# Altium integrated library Altera APEX 20KE.IntLib: 235 symbols (part 32 of 49)
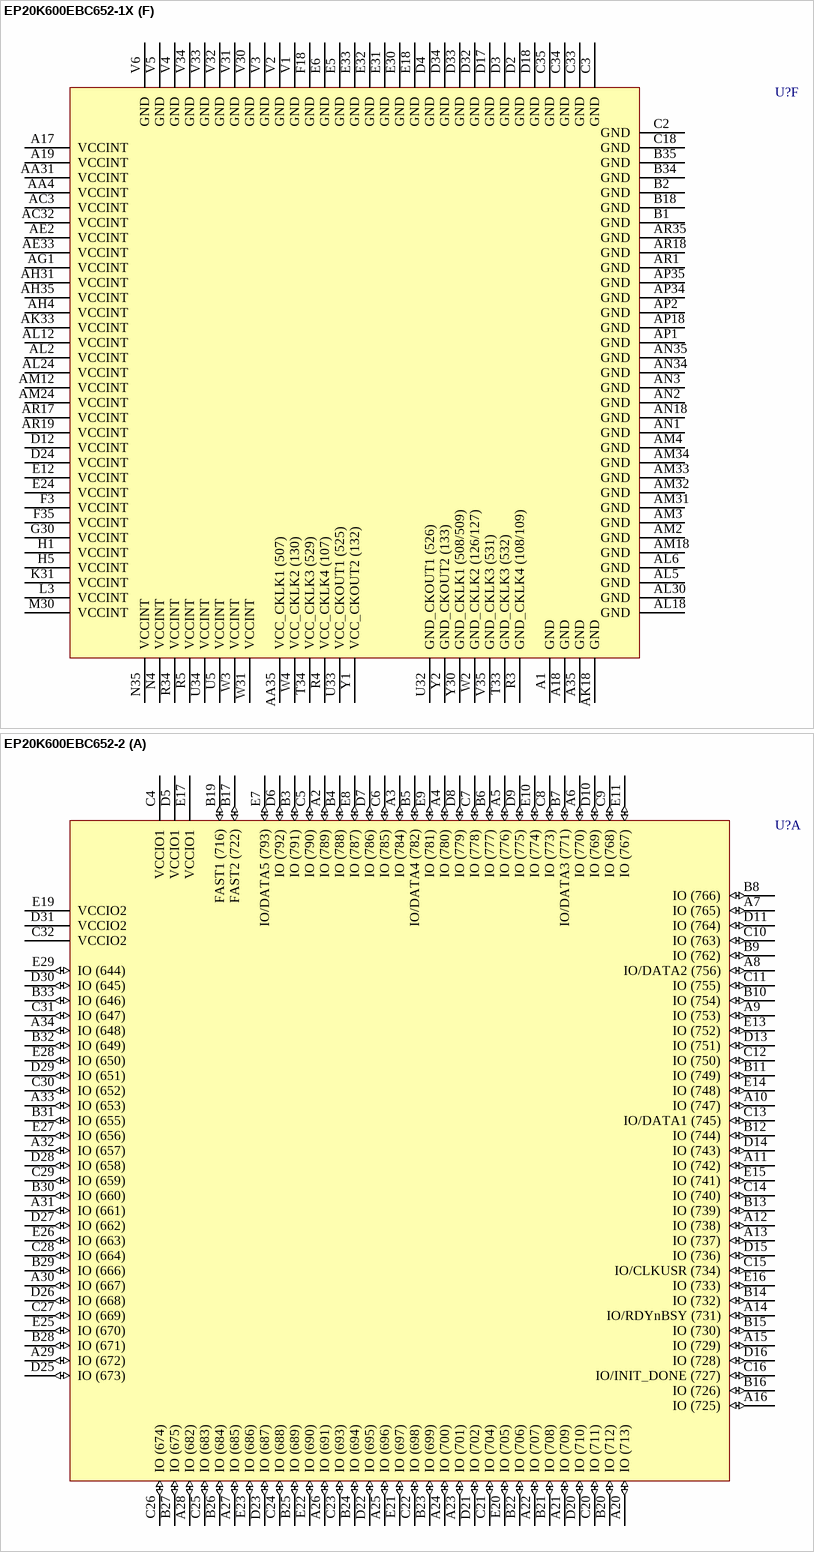
[diagram p430: symbols EP20K600EBC652-1X to EP20K600EBC652-2]

## EP20K600EBC652-1X
designator U?
APEX 20K600E PLD with PLLs and LVDS, 652-Pin BGA, Commercial Grade, Speed Grade 1; Published: 17-Jul-2002; LatestRevisionDate: 13-Apr-2006; LatestRevisionNote: IPC-7351 Footprint Added.; DatasheetVersion: Mar-2004; PackageVersion: ver14.1, Oct-2005; PackageReference: BGA652; Publisher: Altium Limited; PackageDescription: 652-Ball Ball Grid Array (BGA652); Code_JEDEC: MO-192-BAW-1; ComponentLink1Description: Manufacturer Link; ComponentLink1URL: http://www.altera.com/products/devices/apex/apx-index.html; ComponentLink2Description: Datasheet; ComponentLink2URL: http://www.altera.com/literature/ds/apex.pdf
footprint BGA652 (BGA, 652-Leads, Body 45x45mm, Pitch 1.27mm)
3D model EP20K600E-BGA652TD (652-Ball Ball Grid Array (BGA652))
part A pins: A2 IO (789) (io), A3 IO (784) (io), A4 IO (780) (io), A5 IO (776) (io), A6 IO (770) (io), A7 IO (765) (io), A8 IO/DATA2 (756) (io), A9 IO (753) (io), A10 IO (747) (io), A11 IO (742) (io), A12 IO (738) (io), A13 IO (737) (io), A14 IO/RDYnBSY (731) (io), A15 IO (729) (io), A16 IO (725) (io), A20 IO (713) (io), A21 IO (709) (io), A22 IO (707) (io), A23 IO (701) (io), A24 IO (700) (io), A25 IO (696) (io), A26 IO (691) (io), A27 IO (685) (io), A28 IO (682) (io), A29 IO (672) (io), A30 IO (667) (io), A31 IO (661) (io), A32 IO (657) (io), A33 IO (653) (io), A34 IO (648) (io), B3 IO (791) (io), B4 IO (788) (io), B5 IO/DATA4 (782) (io), B6 IO (777) (io), B7 IO/DATA3 (771) (io), B8 IO (766) (io), B9 IO (762) (io), B10 IO (754) (io), B11 IO (749) (io), B12 IO (744) (io), B13 IO (739) (io), B14 IO (732) (io), B15 IO (730) (io), B16 IO (726) (io), B17 FAST2 (722) (io), B19 FAST1 (716) (io), B20 IO (712) (io), B21 IO (708) (io), B22 IO (706) (io), B23 IO (699) (io), B24 IO (694) (io), B25 IO (689) (io), B26 IO (684) (io), B27 IO (675) (io), B28 IO (671) (io), B29 IO (666) (io), B30 IO (660) (io), B31 IO (655) (io), B32 IO (649) (io), B33 IO (646) (io), C4 VCCIO1 (power), C5 IO (790) (io), C6 IO (785) (io), C7 IO (778) (io), C8 IO (773) (io), C9 IO (768) (io), C10 IO (763) (io), C11 IO (755) (io), C12 IO (750) (io), C13 IO/DATA1 (745) (io), C14 IO (740) (io), C15 IO/CLKUSR (734) (io), C16 IO/INIT_DONE (727) (io), C20 IO (711) (io), C21 IO (704) (io), C22 IO (698) (io), C23 IO (693) (io), C24 IO (688) (io), C25 IO (683) (io), C26 IO (674) (io), C27 IO (669) (io), C28 IO (664) (io), C29 IO (659) (io), C30 IO (652) (io), C31 IO (647) (io), C32 VCCIO2 (power), D5 VCCIO1 (power), D6 IO (792) (io), D7 IO (786) (io), D8 IO (779) (io), D9 IO (775) (io), D10 IO (769) (io), D11 IO (764) (io), D13 IO (751) (io), D14 IO (743) (io), D15 IO (736) (io), D16 IO (728) (io), D20 IO (710) (io), D21 IO (702) (io), D22 IO (695) (io), D23 IO (687) (io), D25 IO (673) (io), D26 IO (668) (io), D27 IO (662) (io), D28 IO (658) (io), D29 IO (651) (io), D30 IO (645) (io), D31 VCCIO2 (power), E7 IO/DATA5 (793) (io), E8 IO (787) (io), E9 IO (781) (io), E10 IO (774) (io), E11 IO (767) (io), E13 IO (752) (io), E14 IO (748) (io), E15 IO (741) (io), E16 IO (733) (io), E17 VCCIO1 (power), E19 VCCIO2 (power), E20 IO (705) (io), E21 IO (697) (io), E22 IO (690) (io), E23 IO (686) (io), E25 IO (670) (io), E26 IO (663) (io), E27 IO (656) (io), E28 IO (650) (io), E29 IO (644) (io)
part B pins: AA30 IO/LOCK1 (501) (io), AA32 IO (504) (io), AA33 IO (505) (io), AA34 IO (506) (io), AB30 IO (494) (io), AB31 IO (495) (io), AB32 IO (497) (io), AB33 IO (498) (io), AB34 IO (499) (io), AB35 IO (500) (io), AC30 IO (487) (io), AC31 IO (488) (io), AC33 IO (491) (io), AC34 IO (492) (io), AC35 IO (493) (io), AD30 IO (480) (io), AD31 IO (481) (io), AD32 IO (482) (io), AD33 IO (484) (io), AD34 IO (485) (io), AD35 IO (486) (io), AE30 IO (473) (io), AE31 IO (474) (io), AE32 IO (475) (io), AE34 IO (478) (io), AE35 IO (479) (io), AF30 IO (466) (io), AF31 IO (467) (io), AF32 IO (468) (io), AF33 IO (469) (io), AF34 IO (471) (io), AF35 IO (472) (io), AG30 IO (458) (io), AG31 IO (459) (io), AG32 IO (460) (io), AG33 IO (461) (io), AG34 IO (462) (io), AG35 IO (465) (io), AH30 IO (449) (io), AH32 IO (452) (io), AH33 IO (453) (io), AH34 IO (455) (io), AJ30 IO (428) (io), AJ31 IO (430) (io), AJ32 IO (434) (io), AJ33 IO (436) (io), AJ34 IO (447) (io), AJ35 IO (456) (io), AK30 IO (410) (io), AK31 IO (415) (io), AK32 IO (417) (io), AK34 IO (441) (io), AK35 IO (454) (io), AL31 VCCIO4 (power), AL32 VCCIO4 (power), AL33 IO (408) (io), AL34 IO (421) (io), AL35 IO (443) (io), AM35 IO (423) (io), D35 IO (623) (io), E34 IO (625) (io), E35 IO (606) (io), F30 VCCIO3 (power), F31 VCCIO3 (power), F32 IO (632) (io), F33 IO (630) (io), F34 IO (610) (io), G31 IO (619) (io), G32 IO (617) (io), G33 IO (612) (io), G34 IO (604) (io), G35 IO/LVDSRX16n (587) (io), H30 IO (599) (io), H31 IO (597) (io), H32 IO (593) (io), H33 IO (591) (io), H34 IO/LVDSRX16p (588) (io), H35 IO (580) (io), J30 IO (586) (io), J31 IO/LVDSRX15n (585) (io), J32 IO/LVDSRX15p (584) (io), J33 IO/LVDSRX14p (582) (io), J34 IO/LVDSRX14n (581) (io), J35 IO/LVDSRX13n (579) (io), K30 IO/LVDSRX13p (578) (io), K32 IO/LVDSRX12p (575) (io), K33 IO/LVDSRX12n (574) (io), K34 IO (573) (io), K35 IO/LVDSRX11n (572) (io), L30 IO/LVDSRX11p (571) (io), L31 IO/LVDSRX10p (569) (io), L32 IO/LVDSRX10n (568) (io), L33 IO (567) (io), L34 IO/LVDSRX09n (566) (io), L35 IO/LVDSRX09p (565) (io), M31 IO/LVDSRX08p (562) (io), M32 IO/LVDSRX08n (561) (io), M33 IO (560) (io), M34 IO/LVDSRX07n (559) (io), M35 IO/LVDSRX07p (558) (io), N30 IO/LVDSRX06p (556) (io), N31 IO/LVDSRX06n (555) (io), N32 IO (554) (io), N33 IO/LVDSRX05n (553) (io), N34 IO/LVDSRX05p (552) (io), P30 IO/LVDSRX04p (549) (io), P31 IO/LVDSRX04n (548) (io), P32 IO (547) (io), P33 IO/LVDSRX03n (546) (io), P34 IO/LVDSRX03p (545) (io), P35 IO/LVDSRX02p (543) (io), R30 IO/LVDSRX02n (542) (io), R31 IO/LOCK3 (541) (io), R32 IO/LVDSRX01n (540) (io), R33 IO/LVDSRX01p (539) (io), R35 IO (536) (io), T30 IO (535) (io), T31 IO/LVDSRXINCLK1n (534) (io), T32 IO/LVDSRXINCLK1p (533) (io), T35 IO/CLKLK_OUT1n (528) (io), U30 VCCIO3 (power), W30 VCCIO4 (power), W34 CLK1p (520) (in), Y31 IO/CLKLK_FB1n (511) (io), Y33 IO/CLK3n (513) (io), Y34 CLK3p (514) (in), Y35 IO/CLK1n (515) (io)
part C pins: AL7 IO (248) (io), AL8 IO (254) (io), AL9 IO (260) (io), AL10 IO (267) (io), AL11 IO (274) (io), AL13 IO (289) (io), AL14 IO (293) (io), AL15 IO (300) (io), AL16 IO (308) (io), AL17 VCCIO6 (power), AL19 VCCIO5 (power), AL20 IO (337) (io), AL21 IO (345) (io), AL22 IO (352) (io), AL23 IO (356) (io), AL25 IO (371) (io), AL26 IO (378) (io), AL27 IO (385) (io), AL28 IO (391) (io), AL29 IO (397) (io), AM5 VCCIO6 (power), AM6 IO (249) (io), AM7 IO (255) (io), AM8 IO (262) (io), AM9 IO (266) (io), AM10 IO (272) (io), AM11 IO (277) (io), AM13 IO (290) (io), AM14 IO (298) (io), AM15 IO (305) (io), AM16 IO/LVDSDESKEW (313) (io), AM20 IO (332) (io), AM21 IO (340) (io), AM22 IO (347) (io), AM23 IO (355) (io), AM25 IO (368) (io), AM26 IO (373) (io), AM27 IO (379) (io), AM28 IO (383) (io), AM29 IO (390) (io), AM30 IO (396) (io), AN4 VCCIO6 (power), AN5 IO (251) (io), AN6 IO (256) (io), AN7 IO (263) (io), AN8 IO (268) (io), AN9 IO (273) (io), AN10 IO (278) (io), AN11 IO (286) (io), AN12 IO (291) (io), AN13 IO (296) (io), AN14 IO (301) (io), AN15 IO (307) (io), AN16 IO (314) (io), AN20 IO (331) (io), AN21 IO (338) (io), AN22 IO (344) (io), AN23 IO (349) (io), AN24 IO (354) (io), AN25 IO (359) (io), AN26 IO (367) (io), AN27 IO (372) (io), AN28 IO (377) (io), AN29 IO (382) (io), AN30 IO (389) (io), AN31 IO (394) (io), AN32 VCCIO5 (power), AN33 VCCIO5 (power), AP3 IO (250) (io), AP4 IO (253) (io), AP5 IO (259) (io), AP6 IO (264) (io), AP7 IO (270) (io), AP8 IO (275) (io), AP9 IO (279) (io), AP10 IO (287) (io), AP11 IO (292) (io), AP12 IO (297) (io), AP13 IO (302) (io), AP14 IO (309) (io), AP15 IO (311) (io), AP16 IO (315) (io), AP17 FAST4 (320) (io), AP19 FAST3 (326) (io), AP20 IO (330) (io), AP21 IO (334) (io), AP22 IO (336) (io), AP23 IO (343) (io), AP24 IO (348) (io), AP25 IO (353) (io), AP26 IO (358) (io), AP27 IO (366) (io), AP28 IO (370) (io), AP29 IO (375) (io), AP30 IO (381) (io), AP31 IO (386) (io), AP32 IO (392) (io), AP33 IO (395) (io), AR2 IO (252) (io), AR3 IO (257) (io), AR4 IO (261) (io), AR5 IO (265) (io), AR6 IO (271) (io), AR7 IO (276) (io), AR8 IO (285) (io), AR9 IO (288) (io), AR10 IO (294) (io), AR11 IO (299) (io), AR12 IO (303) (io), AR13 IO (304) (io), AR14 IO (310) (io), AR15 IO (312) (io), AR16 IO (316) (io), AR20 IO (329) (io), AR21 IO (333) (io), AR22 IO (335) (io), AR23 IO (341) (io), AR24 IO (342) (io), AR25 IO (346) (io), AR26 IO (351) (io), AR27 IO (357) (io), AR28 IO (360) (io), AR29 IO (369) (io), AR30 IO (374) (io), AR31 IO (380) (io), AR32 IO (384) (io), AR33 IO (388) (io), AR34 IO (393) (io)
part D pins: AA1 IO (146) (io), AA2 IO/LVDSTXOUTCLK1n (140) (io), AA3 IO/LVDSTXOUTCLK1p (141) (io), AA5 IO/LVDSTX01p (144) (io), AA6 IO/LVDSTX01n (145) (io), AB1 IO (152) (io), AB2 IO/LVDSTX02n (147) (io), AB3 IO/LVDSTX02p (148) (io), AB4 IO/LVDSTX03p (150) (io), AB5 IO/LVDSTX03n (151) (io), AB6 IO/LOCK2 (139) (io), AC1 IO/LVDSTX04n (153) (io), AC2 IO/LVDSTX04p (154) (io), AC4 IO/LVDSTX05p (157) (io), AC5 IO/LVDSTX05n (158) (io), AC6 IO/LOCK4 (159) (io), AD1 IO/LVDSTX06n (160) (io), AD2 IO/LVDSTX06p (161) (io), AD3 IO/LVDSTX07p (163) (io), AD4 IO/LVDSTX07n (164) (io), AD5 IO (165) (io), AD6 IO/LVDSTX08n (166) (io), AE1 IO/LVDSTX08p (167) (io), AE3 IO/LVDSTX09p (170) (io), AE4 IO/LVDSTX09n (171) (io), AE5 IO (172) (io), AE6 IO/LVDSTX10n (173) (io), AF1 IO/LVDSTX10p (174) (io), AF2 IO/LVDSTX11p (176) (io), AF3 IO/LVDSTX11n (177) (io), AF4 IO (178) (io), AF5 IO/LVDSTX12n (179) (io), AF6 IO/LVDSTX12p (180) (io), AG2 IO/LVDSTX13n (184) (io), AG3 IO (185) (io), AG4 IO/LVDSTX14n (186) (io), AG5 IO/LVDSTX14p (187) (io), AG6 IO/LVDSTX15p (189) (io), AH1 IO/LVDSTX13p (183) (io), AH2 IO (191) (io), AH3 IO/LVDSTX16p (193) (io), AH5 IO (196) (io), AH6 IO (198) (io), AJ1 IO/LVDSTX15n (190) (io), AJ2 IO (202) (io), AJ3 IO (211) (io), AJ4 IO (215) (io), AJ5 IO (217) (io), AJ6 IO (222) (io), AK1 IO/LVDSTX16n (192) (io), AK2 IO (209) (io), AK3 IO (228) (io), AK4 IO (230) (io), AK5 IO (235) (io), AK6 IO (237) (io), AL1 IO (204) (io), AL3 VCCIO7 (power), AL4 VCCIO7 (power), AM1 IO (224) (io), C1 IO (20) (io), D1 IO (24) (io), E1 IO (46) (io), E2 IO (26) (io), E3 VCCIO8 (power), E4 VCCIO8 (power), F1 IO (57) (io), F2 IO (44) (io), F4 IO (18) (io), F5 IO (13) (io), F6 IO (11) (io), G1 IO (59) (io), G2 IO (50) (io), G3 IO (39) (io), G4 IO (37) (io), G5 IO (33) (io), G6 IO (31) (io), H2 IO (58) (io), H3 IO (56) (io), H4 IO (55) (io), H6 IO (52) (io), J1 IO (68) (io), J2 IO (65) (io), J3 IO (64) (io), J4 IO (63) (io), J5 IO (62) (io), J6 IO (61) (io), K1 IO (75) (io), K2 IO (74) (io), K3 IO (72) (io), K4 IO (71) (io), K5 IO (70) (io), K6 IO (69) (io), L1 IO (82) (io), L2 IO (81) (io), L4 IO (78) (io), L5 IO (77) (io), L6 IO/DATA6 (76) (io), M1 IO/nWS (89) (io), M2 IO (88) (io), M3 IO (87) (io), M4 IO (85) (io), M5 IO (84) (io), M6 IO/DATA7 (83) (io), N1 IO/nRS (96) (io), N2 IO (95) (io), N3 IO (94) (io), N5 IO (91) (io), N6 IO (90) (io), P1 IO (103) (io), P2 IO/nCS (102) (io), P3 IO (101) (io), P4 IO (100) (io), P5 IO (98) (io), P6 IO (97) (io), R1 IO (111) (io), R2 IO/CS (110) (io), R6 IO (104) (io), T1 IO/CLK2n (118) (io), T2 CLK4p (117) (in), T3 IO/CLK4n (116) (io), T5 IO/CLKLK_FB2n (114) (io), T6 IO/DEV_CLRn (112) (io), U2 CLK2p (123) (in), U6 VCCIO8 (power), W5 IO/LVDSTXINCLK1p (137) (io), W6 VCCIO7 (power), Y4 IO/CLKLK_OUT2n (135) (io), Y5 IO/DEV_OE (131) (io), Y6 IO/LVDSTXINCLK1n (138) (io)
part E pins: AM17 CONF_DONE (318) (io), AM19 TMS (328) (in), AN17 nSTATUS (319) (io), AN19 TCK (327) (in), C17 TDO (723) (out), C19 nCEO (715) (out), D19 TRST (714) (in), T4 CLKLK_FB2p (115) (in), U1 nCE (124) (in), U3 DCLK (122) (in), U4 DATA0 (121) (in), U31 CLKLK_OUT1p (527) (out), U35 MSEL0 (522) (in), W1 TDI (125) (in), W32 nCONFIG (518) (in), W33 CLKLK_ENA (519) (in), W35 MSEL1 (521) (in), Y3 CLKLK_OUT2p (134) (out), Y32 CLKLK_FB1p (512) (in)
part F pins: A1 GND (power), A17 VCCINT (power), A18 GND (power), A19 VCCINT (power), A35 GND (power), AA4 VCCINT (power), AA31 VCCINT (power), AA35 VCC_CKLK1 (507) (power), AC3 VCCINT (power), AC32 VCCINT (power), AE2 VCCINT (power), AE33 VCCINT (power), AG1 VCCINT (power), AH4 VCCINT (power), AH31 VCCINT (power), AH35 VCCINT (power), AK18 GND (power), AK33 VCCINT (power), AL2 VCCINT (power), AL5 GND (power), AL6 GND (power), AL12 VCCINT (power), AL18 GND (power), AL24 VCCINT (power), AL30 GND (power), AM2 GND (power), AM3 GND (power), AM4 GND (power), AM12 VCCINT (power), AM18 GND (power), AM24 VCCINT (power), AM31 GND (power), AM32 GND (power), AM33 GND (power), AM34 GND (power), AN1 GND (power), AN2 GND (power), AN3 GND (power), AN18 GND (power), AN34 GND (power), AN35 GND (power), AP1 GND (power), AP2 GND (power), AP18 GND (power), AP34 GND (power), AP35 GND (power), AR1 GND (power), AR17 VCCINT (power), AR18 GND (power), AR19 VCCINT (power), AR35 GND (power), B1 GND (power), B2 GND (power), B18 GND (power), B34 GND (power), B35 GND (power), C2 GND (power), C3 GND (power), C18 GND (power), C33 GND (power), C34 GND (power), C35 GND (power), D2 GND (power), D3 GND (power), D4 GND (power), D12 VCCINT (power), D17 GND (power), D18 GND (power), D24 VCCINT (power), D32 GND (power), D33 GND (power), D34 GND (power), E5 GND (power), E6 GND (power), E12 VCCINT (power), E18 GND (power), E24 VCCINT (power), E30 GND (power), E31 GND (power), E32 GND (power), E33 GND (power), F3 VCCINT (power), F18 GND (power), F35 VCCINT (power), G30 VCCINT (power), H1 VCCINT (power), H5 VCCINT (power), K31 VCCINT (power), L3 VCCINT (power), M30 VCCINT (power), N4 VCCINT (power), N35 VCCINT (power), R3 GND_CKLK4 (108/109) (power), R4 VCC_CKLK4 (107) (power), R5 VCCINT (power), R34 VCCINT (power), T33 GND_CKLK3 (532) (power), T34 VCC_CKLK3 (529) (power), U5 VCCINT (power), U32 GND_CKOUT1 (526) (power), U33 VCC_CKOUT1 (525) (power), U34 VCCINT (power), V1 GND (power), V2 GND (power), V3 GND (power), V4 GND (power), V5 GND (power), V6 GND (power), V30 GND (power), V31 GND (power), V32 GND (power), V33 GND (power), V34 GND (power), V35 GND_CKLK3 (531) (power), W2 GND_CKLK2 (126/127) (power), W3 VCCINT (power), W4 VCC_CKLK2 (130) (power), W31 VCCINT (power), Y1 VCC_CKOUT2 (132) (power), Y2 GND_CKOUT2 (133) (power), Y30 GND_CKLK1 (508/509) (power)

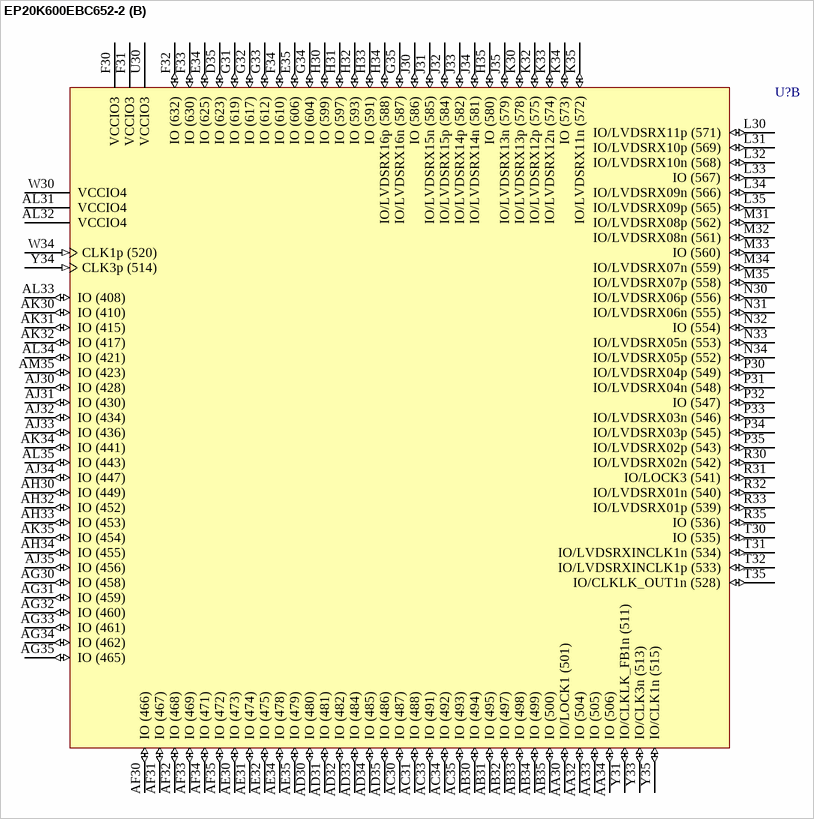
[diagram p330: symbol EP20K600EBC652-2]

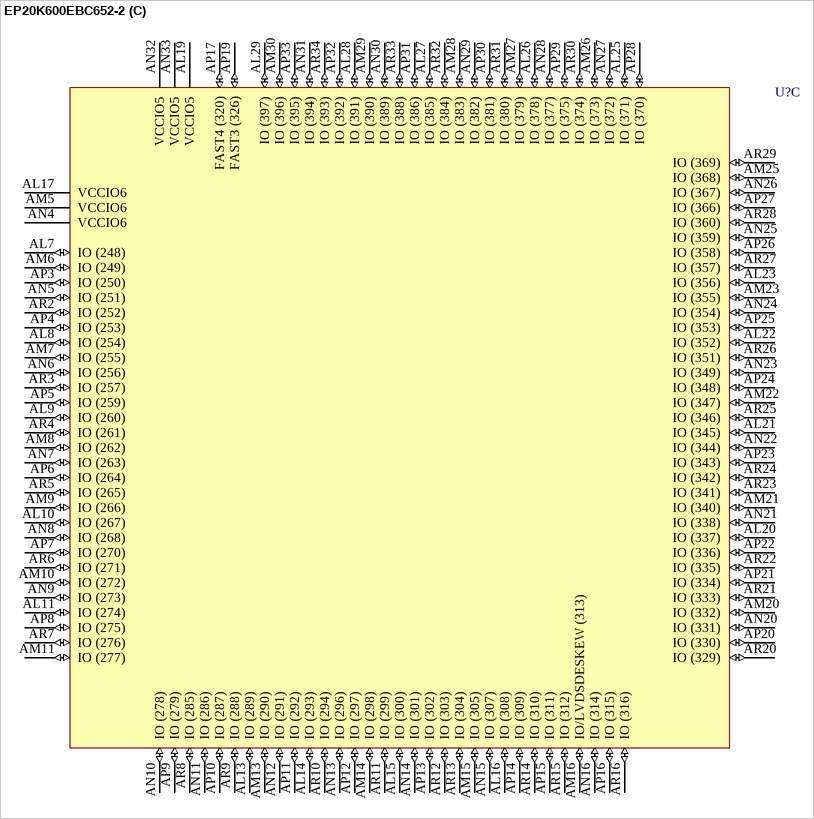
[diagram p331: symbol EP20K600EBC652-2]

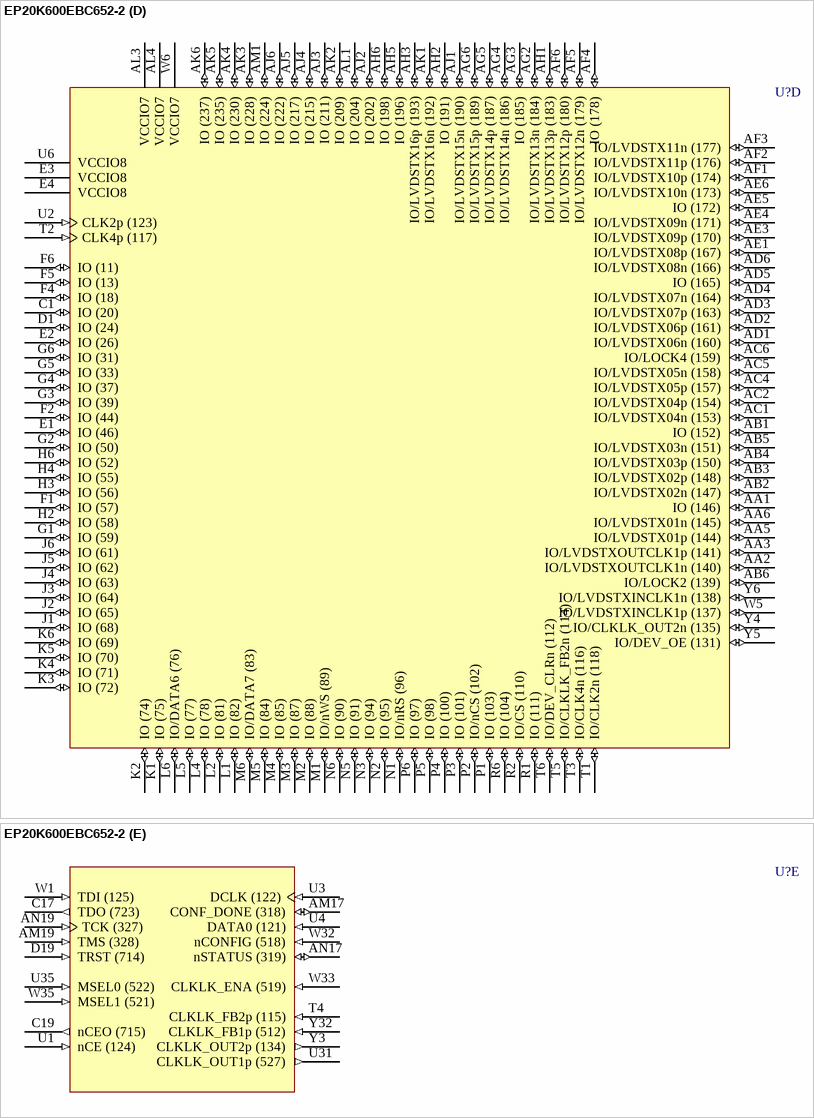
[diagram p332: symbol EP20K600EBC652-2]

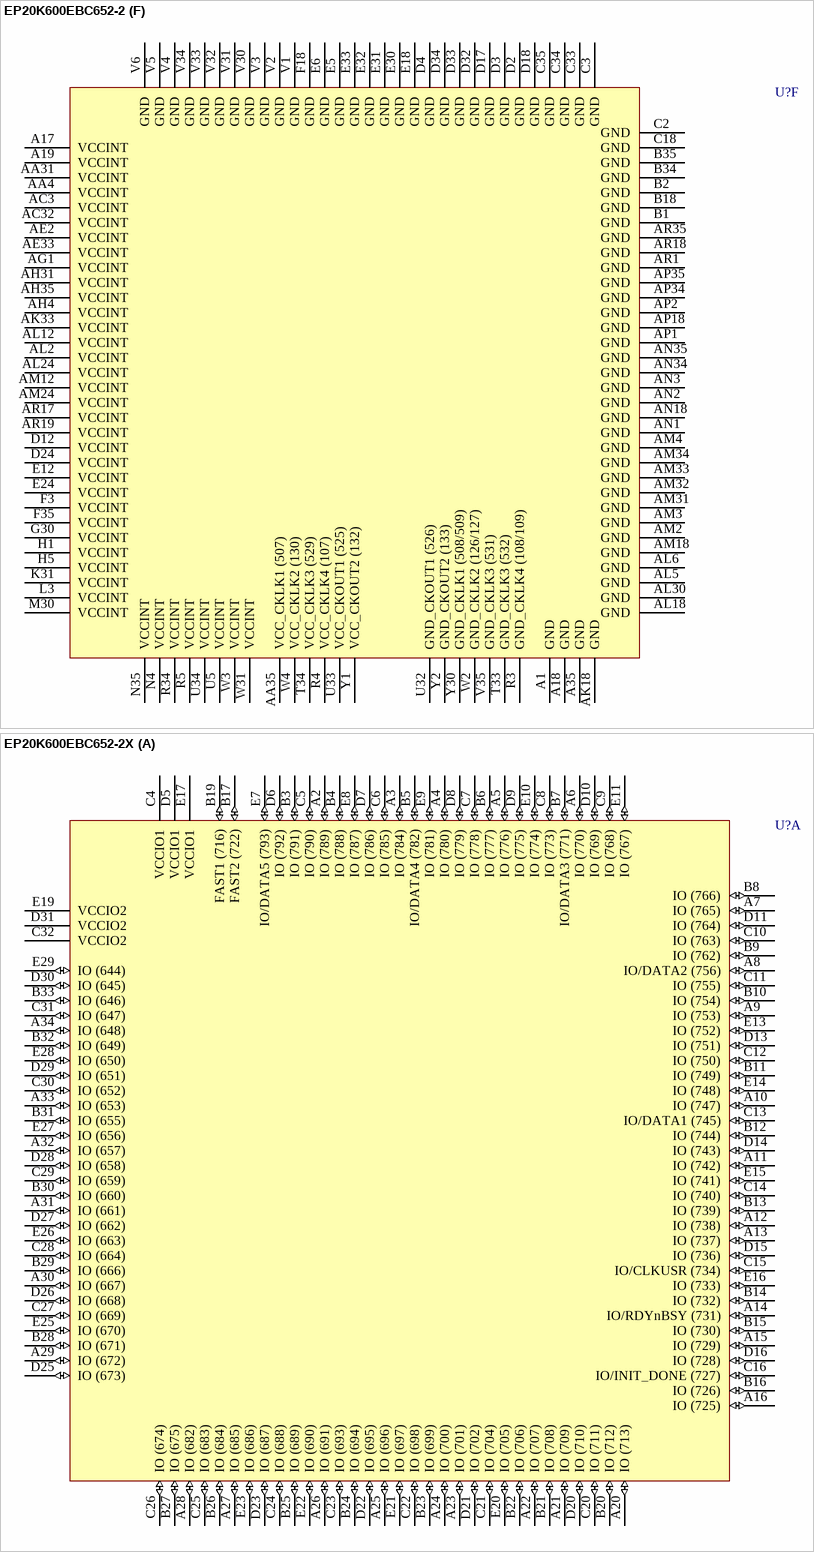
[diagram p333: symbols EP20K600EBC652-2 to EP20K600EBC652-2X]

## EP20K600EBC652-2
designator U?
APEX 20K600E PLD, 652-Pin BGA, Commercial Grade, Speed Grade 2; Published: 17-Jul-2002; LatestRevisionDate: 13-Apr-2006; LatestRevisionNote: IPC-7351 Footprint Added.; DatasheetVersion: Mar-2004; PackageVersion: ver14.1, Oct-2005; PackageReference: BGA652; Publisher: Altium Limited; PackageDescription: 652-Ball Ball Grid Array (BGA652); Code_JEDEC: MO-192-BAW-1; ComponentLink1Description: Manufacturer Link; ComponentLink1URL: http://www.altera.com/products/devices/apex/apx-index.html; ComponentLink2Description: Datasheet; ComponentLink2URL: http://www.altera.com/literature/ds/apex.pdf
footprint BGA652 (BGA, 652-Leads, Body 45x45mm, Pitch 1.27mm)
3D model EP20K600E-BGA652TD (652-Ball Ball Grid Array (BGA652))
part A pins: A2 IO (789) (io), A3 IO (784) (io), A4 IO (780) (io), A5 IO (776) (io), A6 IO (770) (io), A7 IO (765) (io), A8 IO/DATA2 (756) (io), A9 IO (753) (io), A10 IO (747) (io), A11 IO (742) (io), A12 IO (738) (io), A13 IO (737) (io), A14 IO/RDYnBSY (731) (io), A15 IO (729) (io), A16 IO (725) (io), A20 IO (713) (io), A21 IO (709) (io), A22 IO (707) (io), A23 IO (701) (io), A24 IO (700) (io), A25 IO (696) (io), A26 IO (691) (io), A27 IO (685) (io), A28 IO (682) (io), A29 IO (672) (io), A30 IO (667) (io), A31 IO (661) (io), A32 IO (657) (io), A33 IO (653) (io), A34 IO (648) (io), B3 IO (791) (io), B4 IO (788) (io), B5 IO/DATA4 (782) (io), B6 IO (777) (io), B7 IO/DATA3 (771) (io), B8 IO (766) (io), B9 IO (762) (io), B10 IO (754) (io), B11 IO (749) (io), B12 IO (744) (io), B13 IO (739) (io), B14 IO (732) (io), B15 IO (730) (io), B16 IO (726) (io), B17 FAST2 (722) (io), B19 FAST1 (716) (io), B20 IO (712) (io), B21 IO (708) (io), B22 IO (706) (io), B23 IO (699) (io), B24 IO (694) (io), B25 IO (689) (io), B26 IO (684) (io), B27 IO (675) (io), B28 IO (671) (io), B29 IO (666) (io), B30 IO (660) (io), B31 IO (655) (io), B32 IO (649) (io), B33 IO (646) (io), C4 VCCIO1 (power), C5 IO (790) (io), C6 IO (785) (io), C7 IO (778) (io), C8 IO (773) (io), C9 IO (768) (io), C10 IO (763) (io), C11 IO (755) (io), C12 IO (750) (io), C13 IO/DATA1 (745) (io), C14 IO (740) (io), C15 IO/CLKUSR (734) (io), C16 IO/INIT_DONE (727) (io), C20 IO (711) (io), C21 IO (704) (io), C22 IO (698) (io), C23 IO (693) (io), C24 IO (688) (io), C25 IO (683) (io), C26 IO (674) (io), C27 IO (669) (io), C28 IO (664) (io), C29 IO (659) (io), C30 IO (652) (io), C31 IO (647) (io), C32 VCCIO2 (power), D5 VCCIO1 (power), D6 IO (792) (io), D7 IO (786) (io), D8 IO (779) (io), D9 IO (775) (io), D10 IO (769) (io), D11 IO (764) (io), D13 IO (751) (io), D14 IO (743) (io), D15 IO (736) (io), D16 IO (728) (io), D20 IO (710) (io), D21 IO (702) (io), D22 IO (695) (io), D23 IO (687) (io), D25 IO (673) (io), D26 IO (668) (io), D27 IO (662) (io), D28 IO (658) (io), D29 IO (651) (io), D30 IO (645) (io), D31 VCCIO2 (power), E7 IO/DATA5 (793) (io), E8 IO (787) (io), E9 IO (781) (io), E10 IO (774) (io), E11 IO (767) (io), E13 IO (752) (io), E14 IO (748) (io), E15 IO (741) (io), E16 IO (733) (io), E17 VCCIO1 (power), E19 VCCIO2 (power), E20 IO (705) (io), E21 IO (697) (io), E22 IO (690) (io), E23 IO (686) (io), E25 IO (670) (io), E26 IO (663) (io), E27 IO (656) (io), E28 IO (650) (io), E29 IO (644) (io)
part B pins: AA30 IO/LOCK1 (501) (io), AA32 IO (504) (io), AA33 IO (505) (io), AA34 IO (506) (io), AB30 IO (494) (io), AB31 IO (495) (io), AB32 IO (497) (io), AB33 IO (498) (io), AB34 IO (499) (io), AB35 IO (500) (io), AC30 IO (487) (io), AC31 IO (488) (io), AC33 IO (491) (io), AC34 IO (492) (io), AC35 IO (493) (io), AD30 IO (480) (io), AD31 IO (481) (io), AD32 IO (482) (io), AD33 IO (484) (io), AD34 IO (485) (io), AD35 IO (486) (io), AE30 IO (473) (io), AE31 IO (474) (io), AE32 IO (475) (io), AE34 IO (478) (io), AE35 IO (479) (io), AF30 IO (466) (io), AF31 IO (467) (io), AF32 IO (468) (io), AF33 IO (469) (io), AF34 IO (471) (io), AF35 IO (472) (io), AG30 IO (458) (io), AG31 IO (459) (io), AG32 IO (460) (io), AG33 IO (461) (io), AG34 IO (462) (io), AG35 IO (465) (io), AH30 IO (449) (io), AH32 IO (452) (io), AH33 IO (453) (io), AH34 IO (455) (io), AJ30 IO (428) (io), AJ31 IO (430) (io), AJ32 IO (434) (io), AJ33 IO (436) (io), AJ34 IO (447) (io), AJ35 IO (456) (io), AK30 IO (410) (io), AK31 IO (415) (io), AK32 IO (417) (io), AK34 IO (441) (io), AK35 IO (454) (io), AL31 VCCIO4 (power), AL32 VCCIO4 (power), AL33 IO (408) (io), AL34 IO (421) (io), AL35 IO (443) (io), AM35 IO (423) (io), D35 IO (623) (io), E34 IO (625) (io), E35 IO (606) (io), F30 VCCIO3 (power), F31 VCCIO3 (power), F32 IO (632) (io), F33 IO (630) (io), F34 IO (610) (io), G31 IO (619) (io), G32 IO (617) (io), G33 IO (612) (io), G34 IO (604) (io), G35 IO/LVDSRX16n (587) (io), H30 IO (599) (io), H31 IO (597) (io), H32 IO (593) (io), H33 IO (591) (io), H34 IO/LVDSRX16p (588) (io), H35 IO (580) (io), J30 IO (586) (io), J31 IO/LVDSRX15n (585) (io), J32 IO/LVDSRX15p (584) (io), J33 IO/LVDSRX14p (582) (io), J34 IO/LVDSRX14n (581) (io), J35 IO/LVDSRX13n (579) (io), K30 IO/LVDSRX13p (578) (io), K32 IO/LVDSRX12p (575) (io), K33 IO/LVDSRX12n (574) (io), K34 IO (573) (io), K35 IO/LVDSRX11n (572) (io), L30 IO/LVDSRX11p (571) (io), L31 IO/LVDSRX10p (569) (io), L32 IO/LVDSRX10n (568) (io), L33 IO (567) (io), L34 IO/LVDSRX09n (566) (io), L35 IO/LVDSRX09p (565) (io), M31 IO/LVDSRX08p (562) (io), M32 IO/LVDSRX08n (561) (io), M33 IO (560) (io), M34 IO/LVDSRX07n (559) (io), M35 IO/LVDSRX07p (558) (io), N30 IO/LVDSRX06p (556) (io), N31 IO/LVDSRX06n (555) (io), N32 IO (554) (io), N33 IO/LVDSRX05n (553) (io), N34 IO/LVDSRX05p (552) (io), P30 IO/LVDSRX04p (549) (io), P31 IO/LVDSRX04n (548) (io), P32 IO (547) (io), P33 IO/LVDSRX03n (546) (io), P34 IO/LVDSRX03p (545) (io), P35 IO/LVDSRX02p (543) (io), R30 IO/LVDSRX02n (542) (io), R31 IO/LOCK3 (541) (io), R32 IO/LVDSRX01n (540) (io), R33 IO/LVDSRX01p (539) (io), R35 IO (536) (io), T30 IO (535) (io), T31 IO/LVDSRXINCLK1n (534) (io), T32 IO/LVDSRXINCLK1p (533) (io), T35 IO/CLKLK_OUT1n (528) (io), U30 VCCIO3 (power), W30 VCCIO4 (power), W34 CLK1p (520) (in), Y31 IO/CLKLK_FB1n (511) (io), Y33 IO/CLK3n (513) (io), Y34 CLK3p (514) (in), Y35 IO/CLK1n (515) (io)
part C pins: AL7 IO (248) (io), AL8 IO (254) (io), AL9 IO (260) (io), AL10 IO (267) (io), AL11 IO (274) (io), AL13 IO (289) (io), AL14 IO (293) (io), AL15 IO (300) (io), AL16 IO (308) (io), AL17 VCCIO6 (power), AL19 VCCIO5 (power), AL20 IO (337) (io), AL21 IO (345) (io), AL22 IO (352) (io), AL23 IO (356) (io), AL25 IO (371) (io), AL26 IO (378) (io), AL27 IO (385) (io), AL28 IO (391) (io), AL29 IO (397) (io), AM5 VCCIO6 (power), AM6 IO (249) (io), AM7 IO (255) (io), AM8 IO (262) (io), AM9 IO (266) (io), AM10 IO (272) (io), AM11 IO (277) (io), AM13 IO (290) (io), AM14 IO (298) (io), AM15 IO (305) (io), AM16 IO/LVDSDESKEW (313) (io), AM20 IO (332) (io), AM21 IO (340) (io), AM22 IO (347) (io), AM23 IO (355) (io), AM25 IO (368) (io), AM26 IO (373) (io), AM27 IO (379) (io), AM28 IO (383) (io), AM29 IO (390) (io), AM30 IO (396) (io), AN4 VCCIO6 (power), AN5 IO (251) (io), AN6 IO (256) (io), AN7 IO (263) (io), AN8 IO (268) (io), AN9 IO (273) (io), AN10 IO (278) (io), AN11 IO (286) (io), AN12 IO (291) (io), AN13 IO (296) (io), AN14 IO (301) (io), AN15 IO (307) (io), AN16 IO (314) (io), AN20 IO (331) (io), AN21 IO (338) (io), AN22 IO (344) (io), AN23 IO (349) (io), AN24 IO (354) (io), AN25 IO (359) (io), AN26 IO (367) (io), AN27 IO (372) (io), AN28 IO (377) (io), AN29 IO (382) (io), AN30 IO (389) (io), AN31 IO (394) (io), AN32 VCCIO5 (power), AN33 VCCIO5 (power), AP3 IO (250) (io), AP4 IO (253) (io), AP5 IO (259) (io), AP6 IO (264) (io), AP7 IO (270) (io), AP8 IO (275) (io), AP9 IO (279) (io), AP10 IO (287) (io), AP11 IO (292) (io), AP12 IO (297) (io), AP13 IO (302) (io), AP14 IO (309) (io), AP15 IO (311) (io), AP16 IO (315) (io), AP17 FAST4 (320) (io), AP19 FAST3 (326) (io), AP20 IO (330) (io), AP21 IO (334) (io), AP22 IO (336) (io), AP23 IO (343) (io), AP24 IO (348) (io), AP25 IO (353) (io), AP26 IO (358) (io), AP27 IO (366) (io), AP28 IO (370) (io), AP29 IO (375) (io), AP30 IO (381) (io), AP31 IO (386) (io), AP32 IO (392) (io), AP33 IO (395) (io), AR2 IO (252) (io), AR3 IO (257) (io), AR4 IO (261) (io), AR5 IO (265) (io), AR6 IO (271) (io), AR7 IO (276) (io), AR8 IO (285) (io), AR9 IO (288) (io), AR10 IO (294) (io), AR11 IO (299) (io), AR12 IO (303) (io), AR13 IO (304) (io), AR14 IO (310) (io), AR15 IO (312) (io), AR16 IO (316) (io), AR20 IO (329) (io), AR21 IO (333) (io), AR22 IO (335) (io), AR23 IO (341) (io), AR24 IO (342) (io), AR25 IO (346) (io), AR26 IO (351) (io), AR27 IO (357) (io), AR28 IO (360) (io), AR29 IO (369) (io), AR30 IO (374) (io), AR31 IO (380) (io), AR32 IO (384) (io), AR33 IO (388) (io), AR34 IO (393) (io)
part D pins: AA1 IO (146) (io), AA2 IO/LVDSTXOUTCLK1n (140) (io), AA3 IO/LVDSTXOUTCLK1p (141) (io), AA5 IO/LVDSTX01p (144) (io), AA6 IO/LVDSTX01n (145) (io), AB1 IO (152) (io), AB2 IO/LVDSTX02n (147) (io), AB3 IO/LVDSTX02p (148) (io), AB4 IO/LVDSTX03p (150) (io), AB5 IO/LVDSTX03n (151) (io), AB6 IO/LOCK2 (139) (io), AC1 IO/LVDSTX04n (153) (io), AC2 IO/LVDSTX04p (154) (io), AC4 IO/LVDSTX05p (157) (io), AC5 IO/LVDSTX05n (158) (io), AC6 IO/LOCK4 (159) (io), AD1 IO/LVDSTX06n (160) (io), AD2 IO/LVDSTX06p (161) (io), AD3 IO/LVDSTX07p (163) (io), AD4 IO/LVDSTX07n (164) (io), AD5 IO (165) (io), AD6 IO/LVDSTX08n (166) (io), AE1 IO/LVDSTX08p (167) (io), AE3 IO/LVDSTX09p (170) (io), AE4 IO/LVDSTX09n (171) (io), AE5 IO (172) (io), AE6 IO/LVDSTX10n (173) (io), AF1 IO/LVDSTX10p (174) (io), AF2 IO/LVDSTX11p (176) (io), AF3 IO/LVDSTX11n (177) (io), AF4 IO (178) (io), AF5 IO/LVDSTX12n (179) (io), AF6 IO/LVDSTX12p (180) (io), AG2 IO/LVDSTX13n (184) (io), AG3 IO (185) (io), AG4 IO/LVDSTX14n (186) (io), AG5 IO/LVDSTX14p (187) (io), AG6 IO/LVDSTX15p (189) (io), AH1 IO/LVDSTX13p (183) (io), AH2 IO (191) (io), AH3 IO/LVDSTX16p (193) (io), AH5 IO (196) (io), AH6 IO (198) (io), AJ1 IO/LVDSTX15n (190) (io), AJ2 IO (202) (io), AJ3 IO (211) (io), AJ4 IO (215) (io), AJ5 IO (217) (io), AJ6 IO (222) (io), AK1 IO/LVDSTX16n (192) (io), AK2 IO (209) (io), AK3 IO (228) (io), AK4 IO (230) (io), AK5 IO (235) (io), AK6 IO (237) (io), AL1 IO (204) (io), AL3 VCCIO7 (power), AL4 VCCIO7 (power), AM1 IO (224) (io), C1 IO (20) (io), D1 IO (24) (io), E1 IO (46) (io), E2 IO (26) (io), E3 VCCIO8 (power), E4 VCCIO8 (power), F1 IO (57) (io), F2 IO (44) (io), F4 IO (18) (io), F5 IO (13) (io), F6 IO (11) (io), G1 IO (59) (io), G2 IO (50) (io), G3 IO (39) (io), G4 IO (37) (io), G5 IO (33) (io), G6 IO (31) (io), H2 IO (58) (io), H3 IO (56) (io), H4 IO (55) (io), H6 IO (52) (io), J1 IO (68) (io), J2 IO (65) (io), J3 IO (64) (io), J4 IO (63) (io), J5 IO (62) (io), J6 IO (61) (io), K1 IO (75) (io), K2 IO (74) (io), K3 IO (72) (io), K4 IO (71) (io), K5 IO (70) (io), K6 IO (69) (io), L1 IO (82) (io), L2 IO (81) (io), L4 IO (78) (io), L5 IO (77) (io), L6 IO/DATA6 (76) (io), M1 IO/nWS (89) (io), M2 IO (88) (io), M3 IO (87) (io), M4 IO (85) (io), M5 IO (84) (io), M6 IO/DATA7 (83) (io), N1 IO/nRS (96) (io), N2 IO (95) (io), N3 IO (94) (io), N5 IO (91) (io), N6 IO (90) (io), P1 IO (103) (io), P2 IO/nCS (102) (io), P3 IO (101) (io), P4 IO (100) (io), P5 IO (98) (io), P6 IO (97) (io), R1 IO (111) (io), R2 IO/CS (110) (io), R6 IO (104) (io), T1 IO/CLK2n (118) (io), T2 CLK4p (117) (in), T3 IO/CLK4n (116) (io), T5 IO/CLKLK_FB2n (114) (io), T6 IO/DEV_CLRn (112) (io), U2 CLK2p (123) (in), U6 VCCIO8 (power), W5 IO/LVDSTXINCLK1p (137) (io), W6 VCCIO7 (power), Y4 IO/CLKLK_OUT2n (135) (io), Y5 IO/DEV_OE (131) (io), Y6 IO/LVDSTXINCLK1n (138) (io)
part E pins: AM17 CONF_DONE (318) (io), AM19 TMS (328) (in), AN17 nSTATUS (319) (io), AN19 TCK (327) (in), C17 TDO (723) (out), C19 nCEO (715) (out), D19 TRST (714) (in), T4 CLKLK_FB2p (115) (in), U1 nCE (124) (in), U3 DCLK (122) (in), U4 DATA0 (121) (in), U31 CLKLK_OUT1p (527) (out), U35 MSEL0 (522) (in), W1 TDI (125) (in), W32 nCONFIG (518) (in), W33 CLKLK_ENA (519) (in), W35 MSEL1 (521) (in), Y3 CLKLK_OUT2p (134) (out), Y32 CLKLK_FB1p (512) (in)
part F pins: A1 GND (power), A17 VCCINT (power), A18 GND (power), A19 VCCINT (power), A35 GND (power), AA4 VCCINT (power), AA31 VCCINT (power), AA35 VCC_CKLK1 (507) (power), AC3 VCCINT (power), AC32 VCCINT (power), AE2 VCCINT (power), AE33 VCCINT (power), AG1 VCCINT (power), AH4 VCCINT (power), AH31 VCCINT (power), AH35 VCCINT (power), AK18 GND (power), AK33 VCCINT (power), AL2 VCCINT (power), AL5 GND (power), AL6 GND (power), AL12 VCCINT (power), AL18 GND (power), AL24 VCCINT (power), AL30 GND (power), AM2 GND (power), AM3 GND (power), AM4 GND (power), AM12 VCCINT (power), AM18 GND (power), AM24 VCCINT (power), AM31 GND (power), AM32 GND (power), AM33 GND (power), AM34 GND (power), AN1 GND (power), AN2 GND (power), AN3 GND (power), AN18 GND (power), AN34 GND (power), AN35 GND (power), AP1 GND (power), AP2 GND (power), AP18 GND (power), AP34 GND (power), AP35 GND (power), AR1 GND (power), AR17 VCCINT (power), AR18 GND (power), AR19 VCCINT (power), AR35 GND (power), B1 GND (power), B2 GND (power), B18 GND (power), B34 GND (power), B35 GND (power), C2 GND (power), C3 GND (power), C18 GND (power), C33 GND (power), C34 GND (power), C35 GND (power), D2 GND (power), D3 GND (power), D4 GND (power), D12 VCCINT (power), D17 GND (power), D18 GND (power), D24 VCCINT (power), D32 GND (power), D33 GND (power), D34 GND (power), E5 GND (power), E6 GND (power), E12 VCCINT (power), E18 GND (power), E24 VCCINT (power), E30 GND (power), E31 GND (power), E32 GND (power), E33 GND (power), F3 VCCINT (power), F18 GND (power), F35 VCCINT (power), G30 VCCINT (power), H1 VCCINT (power), H5 VCCINT (power), K31 VCCINT (power), L3 VCCINT (power), M30 VCCINT (power), N4 VCCINT (power), N35 VCCINT (power), R3 GND_CKLK4 (108/109) (power), R4 VCC_CKLK4 (107) (power), R5 VCCINT (power), R34 VCCINT (power), T33 GND_CKLK3 (532) (power), T34 VCC_CKLK3 (529) (power), U5 VCCINT (power), U32 GND_CKOUT1 (526) (power), U33 VCC_CKOUT1 (525) (power), U34 VCCINT (power), V1 GND (power), V2 GND (power), V3 GND (power), V4 GND (power), V5 GND (power), V6 GND (power), V30 GND (power), V31 GND (power), V32 GND (power), V33 GND (power), V34 GND (power), V35 GND_CKLK3 (531) (power), W2 GND_CKLK2 (126/127) (power), W3 VCCINT (power), W4 VCC_CKLK2 (130) (power), W31 VCCINT (power), Y1 VCC_CKOUT2 (132) (power), Y2 GND_CKOUT2 (133) (power), Y30 GND_CKLK1 (508/509) (power)

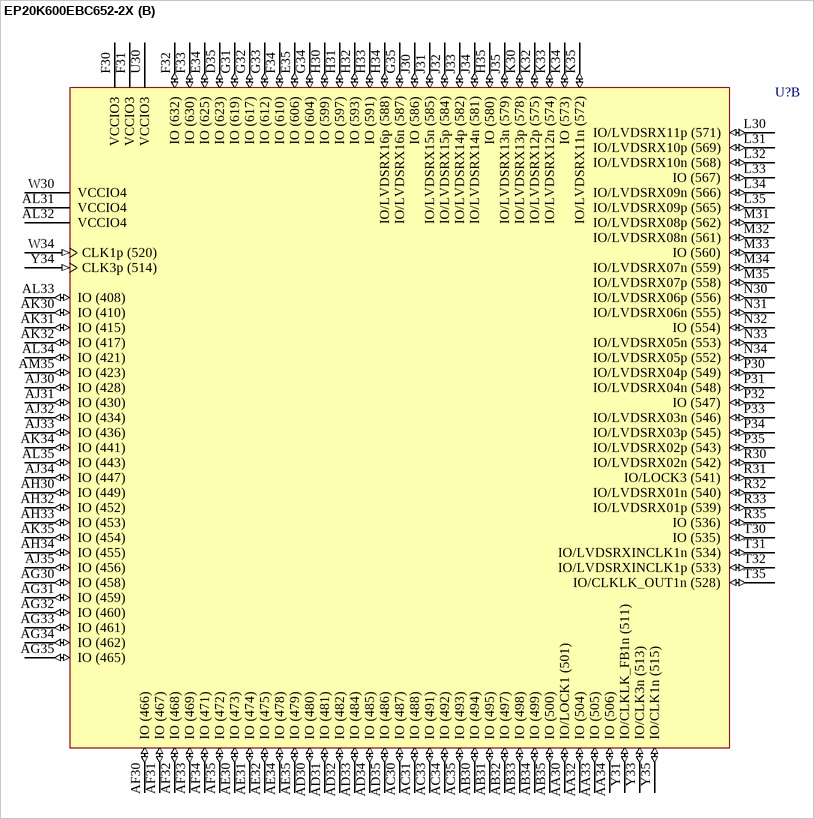
[diagram p334: symbol EP20K600EBC652-2X]

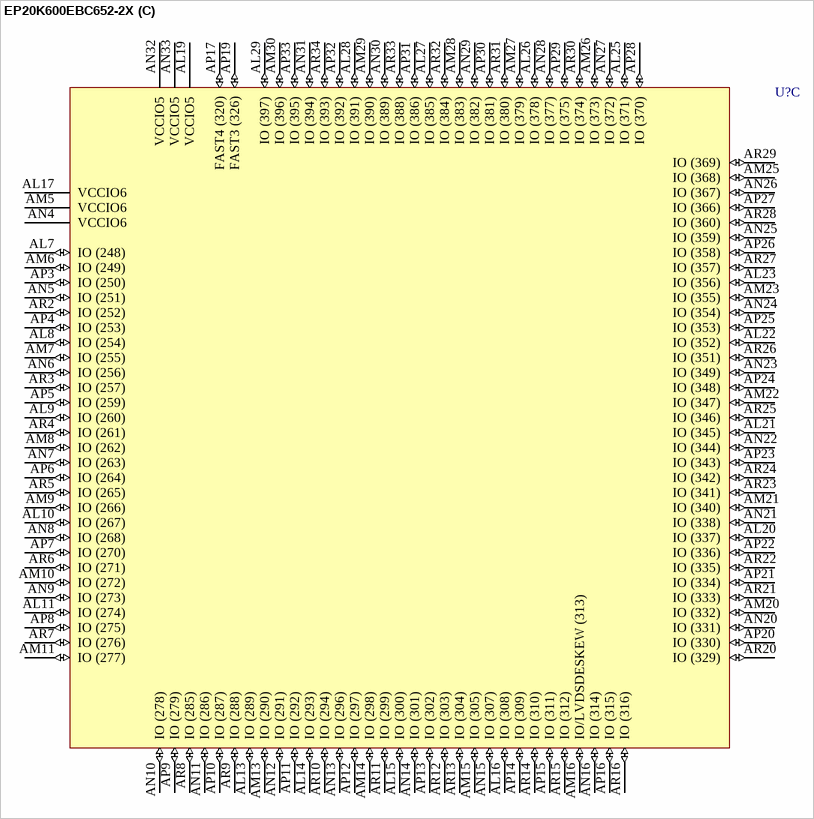
[diagram p335: symbol EP20K600EBC652-2X]

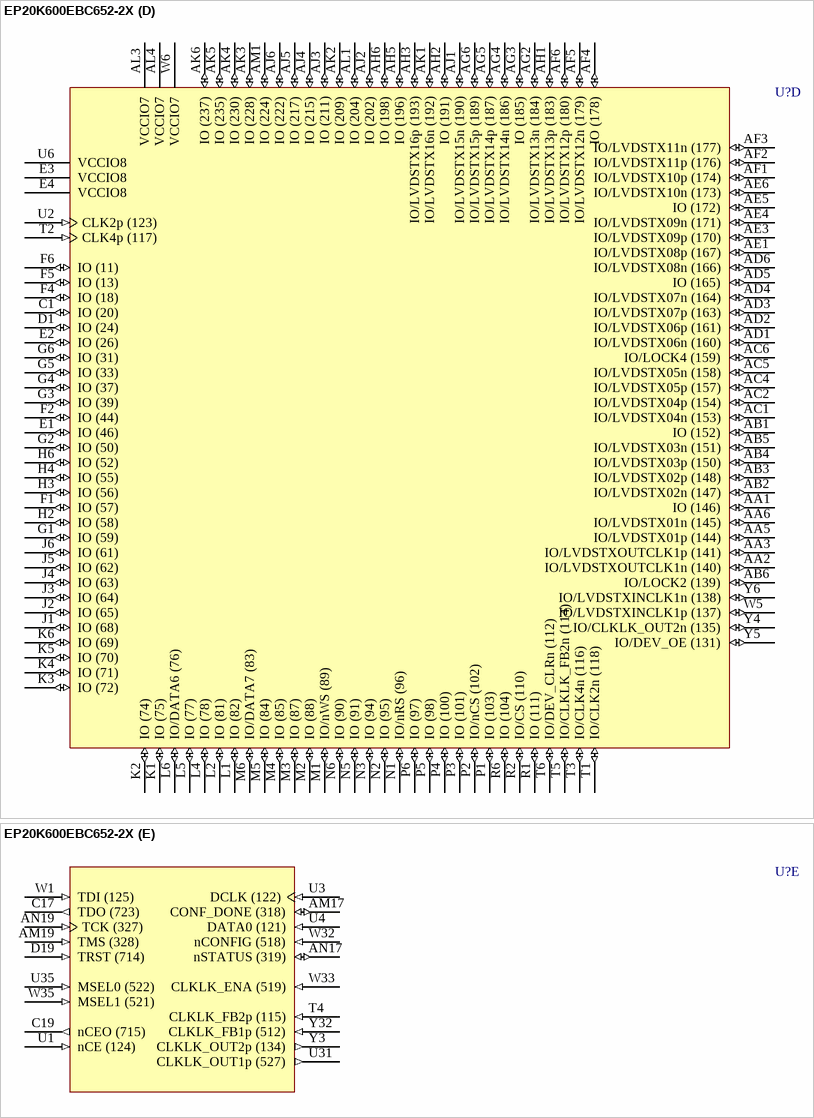
[diagram p336: symbol EP20K600EBC652-2X]

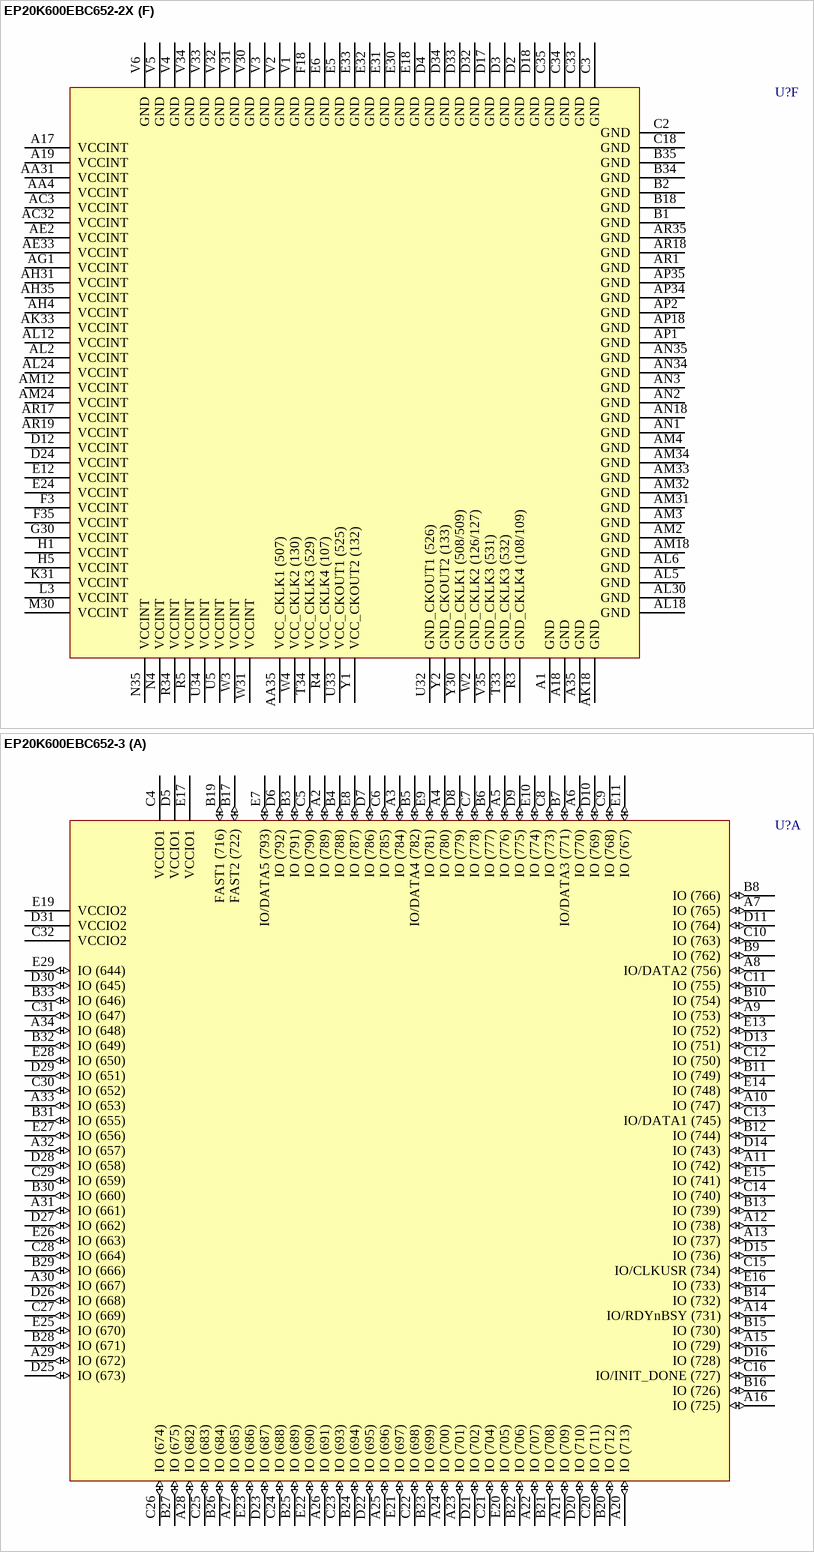
[diagram p337: symbols EP20K600EBC652-2X to EP20K600EBC652-3]

## EP20K600EBC652-2X
designator U?
APEX 20K600E PLD with PLLs and LVDS, 652-Pin BGA, Commercial Grade, Speed Grade 2; Published: 17-Jul-2002; LatestRevisionDate: 13-Apr-2006; LatestRevisionNote: IPC-7351 Footprint Added.; DatasheetVersion: Mar-2004; PackageVersion: ver14.1, Oct-2005; PackageReference: BGA652; Publisher: Altium Limited; PackageDescription: 652-Ball Ball Grid Array (BGA652); Code_JEDEC: MO-192-BAW-1; ComponentLink1Description: Manufacturer Link; ComponentLink1URL: http://www.altera.com/products/devices/apex/apx-index.html; ComponentLink2Description: Datasheet; ComponentLink2URL: http://www.altera.com/literature/ds/apex.pdf
footprint BGA652 (BGA, 652-Leads, Body 45x45mm, Pitch 1.27mm)
3D model EP20K600E-BGA652TD (652-Ball Ball Grid Array (BGA652))
part A pins: A2 IO (789) (io), A3 IO (784) (io), A4 IO (780) (io), A5 IO (776) (io), A6 IO (770) (io), A7 IO (765) (io), A8 IO/DATA2 (756) (io), A9 IO (753) (io), A10 IO (747) (io), A11 IO (742) (io), A12 IO (738) (io), A13 IO (737) (io), A14 IO/RDYnBSY (731) (io), A15 IO (729) (io), A16 IO (725) (io), A20 IO (713) (io), A21 IO (709) (io), A22 IO (707) (io), A23 IO (701) (io), A24 IO (700) (io), A25 IO (696) (io), A26 IO (691) (io), A27 IO (685) (io), A28 IO (682) (io), A29 IO (672) (io), A30 IO (667) (io), A31 IO (661) (io), A32 IO (657) (io), A33 IO (653) (io), A34 IO (648) (io), B3 IO (791) (io), B4 IO (788) (io), B5 IO/DATA4 (782) (io), B6 IO (777) (io), B7 IO/DATA3 (771) (io), B8 IO (766) (io), B9 IO (762) (io), B10 IO (754) (io), B11 IO (749) (io), B12 IO (744) (io), B13 IO (739) (io), B14 IO (732) (io), B15 IO (730) (io), B16 IO (726) (io), B17 FAST2 (722) (io), B19 FAST1 (716) (io), B20 IO (712) (io), B21 IO (708) (io), B22 IO (706) (io), B23 IO (699) (io), B24 IO (694) (io), B25 IO (689) (io), B26 IO (684) (io), B27 IO (675) (io), B28 IO (671) (io), B29 IO (666) (io), B30 IO (660) (io), B31 IO (655) (io), B32 IO (649) (io), B33 IO (646) (io), C4 VCCIO1 (power), C5 IO (790) (io), C6 IO (785) (io), C7 IO (778) (io), C8 IO (773) (io), C9 IO (768) (io), C10 IO (763) (io), C11 IO (755) (io), C12 IO (750) (io), C13 IO/DATA1 (745) (io), C14 IO (740) (io), C15 IO/CLKUSR (734) (io), C16 IO/INIT_DONE (727) (io), C20 IO (711) (io), C21 IO (704) (io), C22 IO (698) (io), C23 IO (693) (io), C24 IO (688) (io), C25 IO (683) (io), C26 IO (674) (io), C27 IO (669) (io), C28 IO (664) (io), C29 IO (659) (io), C30 IO (652) (io), C31 IO (647) (io), C32 VCCIO2 (power), D5 VCCIO1 (power), D6 IO (792) (io), D7 IO (786) (io), D8 IO (779) (io), D9 IO (775) (io), D10 IO (769) (io), D11 IO (764) (io), D13 IO (751) (io), D14 IO (743) (io), D15 IO (736) (io), D16 IO (728) (io), D20 IO (710) (io), D21 IO (702) (io), D22 IO (695) (io), D23 IO (687) (io), D25 IO (673) (io), D26 IO (668) (io), D27 IO (662) (io), D28 IO (658) (io), D29 IO (651) (io), D30 IO (645) (io), D31 VCCIO2 (power), E7 IO/DATA5 (793) (io), E8 IO (787) (io), E9 IO (781) (io), E10 IO (774) (io), E11 IO (767) (io), E13 IO (752) (io), E14 IO (748) (io), E15 IO (741) (io), E16 IO (733) (io), E17 VCCIO1 (power), E19 VCCIO2 (power), E20 IO (705) (io), E21 IO (697) (io), E22 IO (690) (io), E23 IO (686) (io), E25 IO (670) (io), E26 IO (663) (io), E27 IO (656) (io), E28 IO (650) (io), E29 IO (644) (io)
part B pins: AA30 IO/LOCK1 (501) (io), AA32 IO (504) (io), AA33 IO (505) (io), AA34 IO (506) (io), AB30 IO (494) (io), AB31 IO (495) (io), AB32 IO (497) (io), AB33 IO (498) (io), AB34 IO (499) (io), AB35 IO (500) (io), AC30 IO (487) (io), AC31 IO (488) (io), AC33 IO (491) (io), AC34 IO (492) (io), AC35 IO (493) (io), AD30 IO (480) (io), AD31 IO (481) (io), AD32 IO (482) (io), AD33 IO (484) (io), AD34 IO (485) (io), AD35 IO (486) (io), AE30 IO (473) (io), AE31 IO (474) (io), AE32 IO (475) (io), AE34 IO (478) (io), AE35 IO (479) (io), AF30 IO (466) (io), AF31 IO (467) (io), AF32 IO (468) (io), AF33 IO (469) (io), AF34 IO (471) (io), AF35 IO (472) (io), AG30 IO (458) (io), AG31 IO (459) (io), AG32 IO (460) (io), AG33 IO (461) (io), AG34 IO (462) (io), AG35 IO (465) (io), AH30 IO (449) (io), AH32 IO (452) (io), AH33 IO (453) (io), AH34 IO (455) (io), AJ30 IO (428) (io), AJ31 IO (430) (io), AJ32 IO (434) (io), AJ33 IO (436) (io), AJ34 IO (447) (io), AJ35 IO (456) (io), AK30 IO (410) (io), AK31 IO (415) (io), AK32 IO (417) (io), AK34 IO (441) (io), AK35 IO (454) (io), AL31 VCCIO4 (power), AL32 VCCIO4 (power), AL33 IO (408) (io), AL34 IO (421) (io), AL35 IO (443) (io), AM35 IO (423) (io), D35 IO (623) (io), E34 IO (625) (io), E35 IO (606) (io), F30 VCCIO3 (power), F31 VCCIO3 (power), F32 IO (632) (io), F33 IO (630) (io), F34 IO (610) (io), G31 IO (619) (io), G32 IO (617) (io), G33 IO (612) (io), G34 IO (604) (io), G35 IO/LVDSRX16n (587) (io), H30 IO (599) (io), H31 IO (597) (io), H32 IO (593) (io), H33 IO (591) (io), H34 IO/LVDSRX16p (588) (io), H35 IO (580) (io), J30 IO (586) (io), J31 IO/LVDSRX15n (585) (io), J32 IO/LVDSRX15p (584) (io), J33 IO/LVDSRX14p (582) (io), J34 IO/LVDSRX14n (581) (io), J35 IO/LVDSRX13n (579) (io), K30 IO/LVDSRX13p (578) (io), K32 IO/LVDSRX12p (575) (io), K33 IO/LVDSRX12n (574) (io), K34 IO (573) (io), K35 IO/LVDSRX11n (572) (io), L30 IO/LVDSRX11p (571) (io), L31 IO/LVDSRX10p (569) (io), L32 IO/LVDSRX10n (568) (io), L33 IO (567) (io), L34 IO/LVDSRX09n (566) (io), L35 IO/LVDSRX09p (565) (io), M31 IO/LVDSRX08p (562) (io), M32 IO/LVDSRX08n (561) (io), M33 IO (560) (io), M34 IO/LVDSRX07n (559) (io), M35 IO/LVDSRX07p (558) (io), N30 IO/LVDSRX06p (556) (io), N31 IO/LVDSRX06n (555) (io), N32 IO (554) (io), N33 IO/LVDSRX05n (553) (io), N34 IO/LVDSRX05p (552) (io), P30 IO/LVDSRX04p (549) (io), P31 IO/LVDSRX04n (548) (io), P32 IO (547) (io), P33 IO/LVDSRX03n (546) (io), P34 IO/LVDSRX03p (545) (io), P35 IO/LVDSRX02p (543) (io), R30 IO/LVDSRX02n (542) (io), R31 IO/LOCK3 (541) (io), R32 IO/LVDSRX01n (540) (io), R33 IO/LVDSRX01p (539) (io), R35 IO (536) (io), T30 IO (535) (io), T31 IO/LVDSRXINCLK1n (534) (io), T32 IO/LVDSRXINCLK1p (533) (io), T35 IO/CLKLK_OUT1n (528) (io), U30 VCCIO3 (power), W30 VCCIO4 (power), W34 CLK1p (520) (in), Y31 IO/CLKLK_FB1n (511) (io), Y33 IO/CLK3n (513) (io), Y34 CLK3p (514) (in), Y35 IO/CLK1n (515) (io)
part C pins: AL7 IO (248) (io), AL8 IO (254) (io), AL9 IO (260) (io), AL10 IO (267) (io), AL11 IO (274) (io), AL13 IO (289) (io), AL14 IO (293) (io), AL15 IO (300) (io), AL16 IO (308) (io), AL17 VCCIO6 (power), AL19 VCCIO5 (power), AL20 IO (337) (io), AL21 IO (345) (io), AL22 IO (352) (io), AL23 IO (356) (io), AL25 IO (371) (io), AL26 IO (378) (io), AL27 IO (385) (io), AL28 IO (391) (io), AL29 IO (397) (io), AM5 VCCIO6 (power), AM6 IO (249) (io), AM7 IO (255) (io), AM8 IO (262) (io), AM9 IO (266) (io), AM10 IO (272) (io), AM11 IO (277) (io), AM13 IO (290) (io), AM14 IO (298) (io), AM15 IO (305) (io), AM16 IO/LVDSDESKEW (313) (io), AM20 IO (332) (io), AM21 IO (340) (io), AM22 IO (347) (io), AM23 IO (355) (io), AM25 IO (368) (io), AM26 IO (373) (io), AM27 IO (379) (io), AM28 IO (383) (io), AM29 IO (390) (io), AM30 IO (396) (io), AN4 VCCIO6 (power), AN5 IO (251) (io), AN6 IO (256) (io), AN7 IO (263) (io), AN8 IO (268) (io), AN9 IO (273) (io), AN10 IO (278) (io), AN11 IO (286) (io), AN12 IO (291) (io), AN13 IO (296) (io), AN14 IO (301) (io), AN15 IO (307) (io), AN16 IO (314) (io), AN20 IO (331) (io), AN21 IO (338) (io), AN22 IO (344) (io), AN23 IO (349) (io), AN24 IO (354) (io), AN25 IO (359) (io), AN26 IO (367) (io), AN27 IO (372) (io), AN28 IO (377) (io), AN29 IO (382) (io), AN30 IO (389) (io), AN31 IO (394) (io), AN32 VCCIO5 (power), AN33 VCCIO5 (power), AP3 IO (250) (io), AP4 IO (253) (io), AP5 IO (259) (io), AP6 IO (264) (io), AP7 IO (270) (io), AP8 IO (275) (io), AP9 IO (279) (io), AP10 IO (287) (io), AP11 IO (292) (io), AP12 IO (297) (io), AP13 IO (302) (io), AP14 IO (309) (io), AP15 IO (311) (io), AP16 IO (315) (io), AP17 FAST4 (320) (io), AP19 FAST3 (326) (io), AP20 IO (330) (io), AP21 IO (334) (io), AP22 IO (336) (io), AP23 IO (343) (io), AP24 IO (348) (io), AP25 IO (353) (io), AP26 IO (358) (io), AP27 IO (366) (io), AP28 IO (370) (io), AP29 IO (375) (io), AP30 IO (381) (io), AP31 IO (386) (io), AP32 IO (392) (io), AP33 IO (395) (io), AR2 IO (252) (io), AR3 IO (257) (io), AR4 IO (261) (io), AR5 IO (265) (io), AR6 IO (271) (io), AR7 IO (276) (io), AR8 IO (285) (io), AR9 IO (288) (io), AR10 IO (294) (io), AR11 IO (299) (io), AR12 IO (303) (io), AR13 IO (304) (io), AR14 IO (310) (io), AR15 IO (312) (io), AR16 IO (316) (io), AR20 IO (329) (io), AR21 IO (333) (io), AR22 IO (335) (io), AR23 IO (341) (io), AR24 IO (342) (io), AR25 IO (346) (io), AR26 IO (351) (io), AR27 IO (357) (io), AR28 IO (360) (io), AR29 IO (369) (io), AR30 IO (374) (io), AR31 IO (380) (io), AR32 IO (384) (io), AR33 IO (388) (io), AR34 IO (393) (io)
part D pins: AA1 IO (146) (io), AA2 IO/LVDSTXOUTCLK1n (140) (io), AA3 IO/LVDSTXOUTCLK1p (141) (io), AA5 IO/LVDSTX01p (144) (io), AA6 IO/LVDSTX01n (145) (io), AB1 IO (152) (io), AB2 IO/LVDSTX02n (147) (io), AB3 IO/LVDSTX02p (148) (io), AB4 IO/LVDSTX03p (150) (io), AB5 IO/LVDSTX03n (151) (io), AB6 IO/LOCK2 (139) (io), AC1 IO/LVDSTX04n (153) (io), AC2 IO/LVDSTX04p (154) (io), AC4 IO/LVDSTX05p (157) (io), AC5 IO/LVDSTX05n (158) (io), AC6 IO/LOCK4 (159) (io), AD1 IO/LVDSTX06n (160) (io), AD2 IO/LVDSTX06p (161) (io), AD3 IO/LVDSTX07p (163) (io), AD4 IO/LVDSTX07n (164) (io), AD5 IO (165) (io), AD6 IO/LVDSTX08n (166) (io), AE1 IO/LVDSTX08p (167) (io), AE3 IO/LVDSTX09p (170) (io), AE4 IO/LVDSTX09n (171) (io), AE5 IO (172) (io), AE6 IO/LVDSTX10n (173) (io), AF1 IO/LVDSTX10p (174) (io), AF2 IO/LVDSTX11p (176) (io), AF3 IO/LVDSTX11n (177) (io), AF4 IO (178) (io), AF5 IO/LVDSTX12n (179) (io), AF6 IO/LVDSTX12p (180) (io), AG2 IO/LVDSTX13n (184) (io), AG3 IO (185) (io), AG4 IO/LVDSTX14n (186) (io), AG5 IO/LVDSTX14p (187) (io), AG6 IO/LVDSTX15p (189) (io), AH1 IO/LVDSTX13p (183) (io), AH2 IO (191) (io), AH3 IO/LVDSTX16p (193) (io), AH5 IO (196) (io), AH6 IO (198) (io), AJ1 IO/LVDSTX15n (190) (io), AJ2 IO (202) (io), AJ3 IO (211) (io), AJ4 IO (215) (io), AJ5 IO (217) (io), AJ6 IO (222) (io), AK1 IO/LVDSTX16n (192) (io), AK2 IO (209) (io), AK3 IO (228) (io), AK4 IO (230) (io), AK5 IO (235) (io), AK6 IO (237) (io), AL1 IO (204) (io), AL3 VCCIO7 (power), AL4 VCCIO7 (power), AM1 IO (224) (io), C1 IO (20) (io), D1 IO (24) (io), E1 IO (46) (io), E2 IO (26) (io), E3 VCCIO8 (power), E4 VCCIO8 (power), F1 IO (57) (io), F2 IO (44) (io), F4 IO (18) (io), F5 IO (13) (io), F6 IO (11) (io), G1 IO (59) (io), G2 IO (50) (io), G3 IO (39) (io), G4 IO (37) (io), G5 IO (33) (io), G6 IO (31) (io), H2 IO (58) (io), H3 IO (56) (io), H4 IO (55) (io), H6 IO (52) (io), J1 IO (68) (io), J2 IO (65) (io), J3 IO (64) (io), J4 IO (63) (io), J5 IO (62) (io), J6 IO (61) (io), K1 IO (75) (io), K2 IO (74) (io), K3 IO (72) (io), K4 IO (71) (io), K5 IO (70) (io), K6 IO (69) (io), L1 IO (82) (io), L2 IO (81) (io), L4 IO (78) (io), L5 IO (77) (io), L6 IO/DATA6 (76) (io), M1 IO/nWS (89) (io), M2 IO (88) (io), M3 IO (87) (io), M4 IO (85) (io), M5 IO (84) (io), M6 IO/DATA7 (83) (io), N1 IO/nRS (96) (io), N2 IO (95) (io), N3 IO (94) (io), N5 IO (91) (io), N6 IO (90) (io), P1 IO (103) (io), P2 IO/nCS (102) (io), P3 IO (101) (io), P4 IO (100) (io), P5 IO (98) (io), P6 IO (97) (io), R1 IO (111) (io), R2 IO/CS (110) (io), R6 IO (104) (io), T1 IO/CLK2n (118) (io), T2 CLK4p (117) (in), T3 IO/CLK4n (116) (io), T5 IO/CLKLK_FB2n (114) (io), T6 IO/DEV_CLRn (112) (io), U2 CLK2p (123) (in), U6 VCCIO8 (power), W5 IO/LVDSTXINCLK1p (137) (io), W6 VCCIO7 (power), Y4 IO/CLKLK_OUT2n (135) (io), Y5 IO/DEV_OE (131) (io), Y6 IO/LVDSTXINCLK1n (138) (io)
part E pins: AM17 CONF_DONE (318) (io), AM19 TMS (328) (in), AN17 nSTATUS (319) (io), AN19 TCK (327) (in), C17 TDO (723) (out), C19 nCEO (715) (out), D19 TRST (714) (in), T4 CLKLK_FB2p (115) (in), U1 nCE (124) (in), U3 DCLK (122) (in), U4 DATA0 (121) (in), U31 CLKLK_OUT1p (527) (out), U35 MSEL0 (522) (in), W1 TDI (125) (in), W32 nCONFIG (518) (in), W33 CLKLK_ENA (519) (in), W35 MSEL1 (521) (in), Y3 CLKLK_OUT2p (134) (out), Y32 CLKLK_FB1p (512) (in)
part F pins: A1 GND (power), A17 VCCINT (power), A18 GND (power), A19 VCCINT (power), A35 GND (power), AA4 VCCINT (power), AA31 VCCINT (power), AA35 VCC_CKLK1 (507) (power), AC3 VCCINT (power), AC32 VCCINT (power), AE2 VCCINT (power), AE33 VCCINT (power), AG1 VCCINT (power), AH4 VCCINT (power), AH31 VCCINT (power), AH35 VCCINT (power), AK18 GND (power), AK33 VCCINT (power), AL2 VCCINT (power), AL5 GND (power), AL6 GND (power), AL12 VCCINT (power), AL18 GND (power), AL24 VCCINT (power), AL30 GND (power), AM2 GND (power), AM3 GND (power), AM4 GND (power), AM12 VCCINT (power), AM18 GND (power), AM24 VCCINT (power), AM31 GND (power), AM32 GND (power), AM33 GND (power), AM34 GND (power), AN1 GND (power), AN2 GND (power), AN3 GND (power), AN18 GND (power), AN34 GND (power), AN35 GND (power), AP1 GND (power), AP2 GND (power), AP18 GND (power), AP34 GND (power), AP35 GND (power), AR1 GND (power), AR17 VCCINT (power), AR18 GND (power), AR19 VCCINT (power), AR35 GND (power), B1 GND (power), B2 GND (power), B18 GND (power), B34 GND (power), B35 GND (power), C2 GND (power), C3 GND (power), C18 GND (power), C33 GND (power), C34 GND (power), C35 GND (power), D2 GND (power), D3 GND (power), D4 GND (power), D12 VCCINT (power), D17 GND (power), D18 GND (power), D24 VCCINT (power), D32 GND (power), D33 GND (power), D34 GND (power), E5 GND (power), E6 GND (power), E12 VCCINT (power), E18 GND (power), E24 VCCINT (power), E30 GND (power), E31 GND (power), E32 GND (power), E33 GND (power), F3 VCCINT (power), F18 GND (power), F35 VCCINT (power), G30 VCCINT (power), H1 VCCINT (power), H5 VCCINT (power), K31 VCCINT (power), L3 VCCINT (power), M30 VCCINT (power), N4 VCCINT (power), N35 VCCINT (power), R3 GND_CKLK4 (108/109) (power), R4 VCC_CKLK4 (107) (power), R5 VCCINT (power), R34 VCCINT (power), T33 GND_CKLK3 (532) (power), T34 VCC_CKLK3 (529) (power), U5 VCCINT (power), U32 GND_CKOUT1 (526) (power), U33 VCC_CKOUT1 (525) (power), U34 VCCINT (power), V1 GND (power), V2 GND (power), V3 GND (power), V4 GND (power), V5 GND (power), V6 GND (power), V30 GND (power), V31 GND (power), V32 GND (power), V33 GND (power), V34 GND (power), V35 GND_CKLK3 (531) (power), W2 GND_CKLK2 (126/127) (power), W3 VCCINT (power), W4 VCC_CKLK2 (130) (power), W31 VCCINT (power), Y1 VCC_CKOUT2 (132) (power), Y2 GND_CKOUT2 (133) (power), Y30 GND_CKLK1 (508/509) (power)

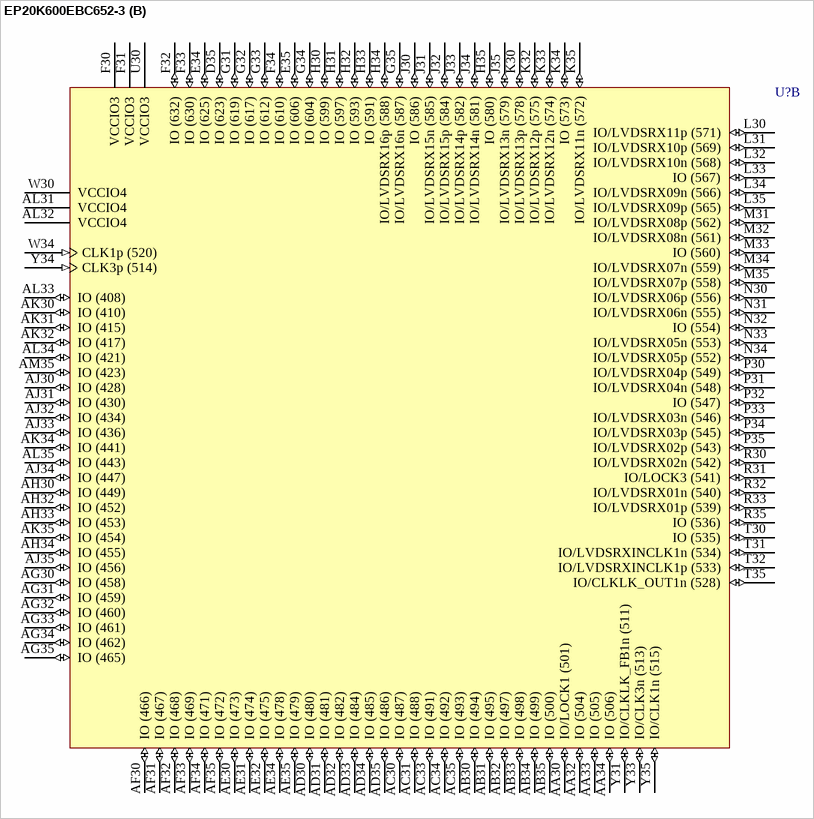
[diagram p338: symbol EP20K600EBC652-3]

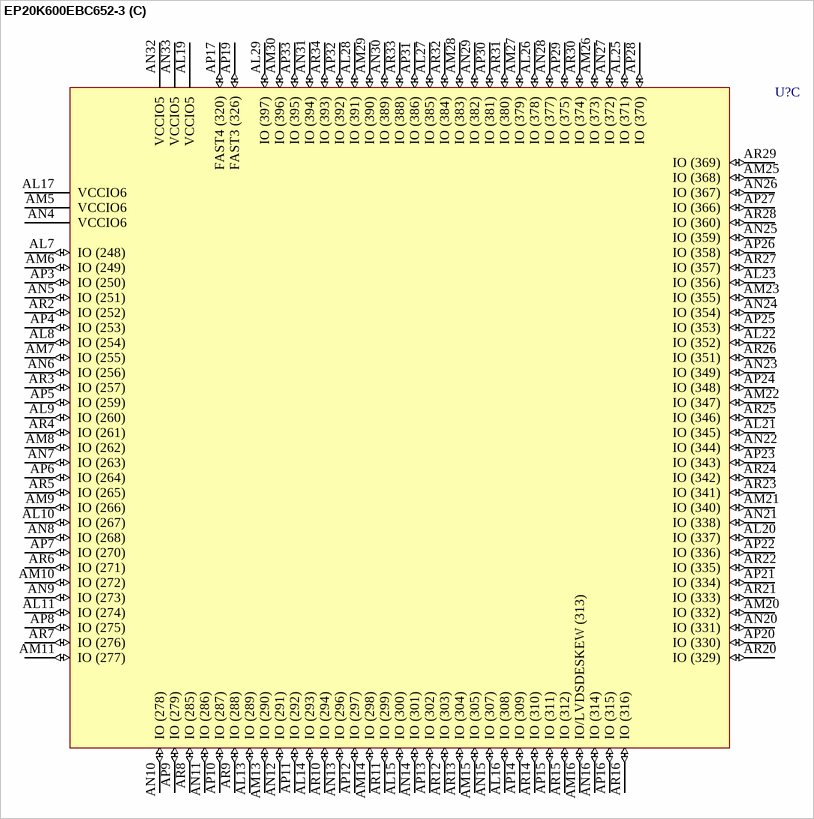
[diagram p339: symbol EP20K600EBC652-3]

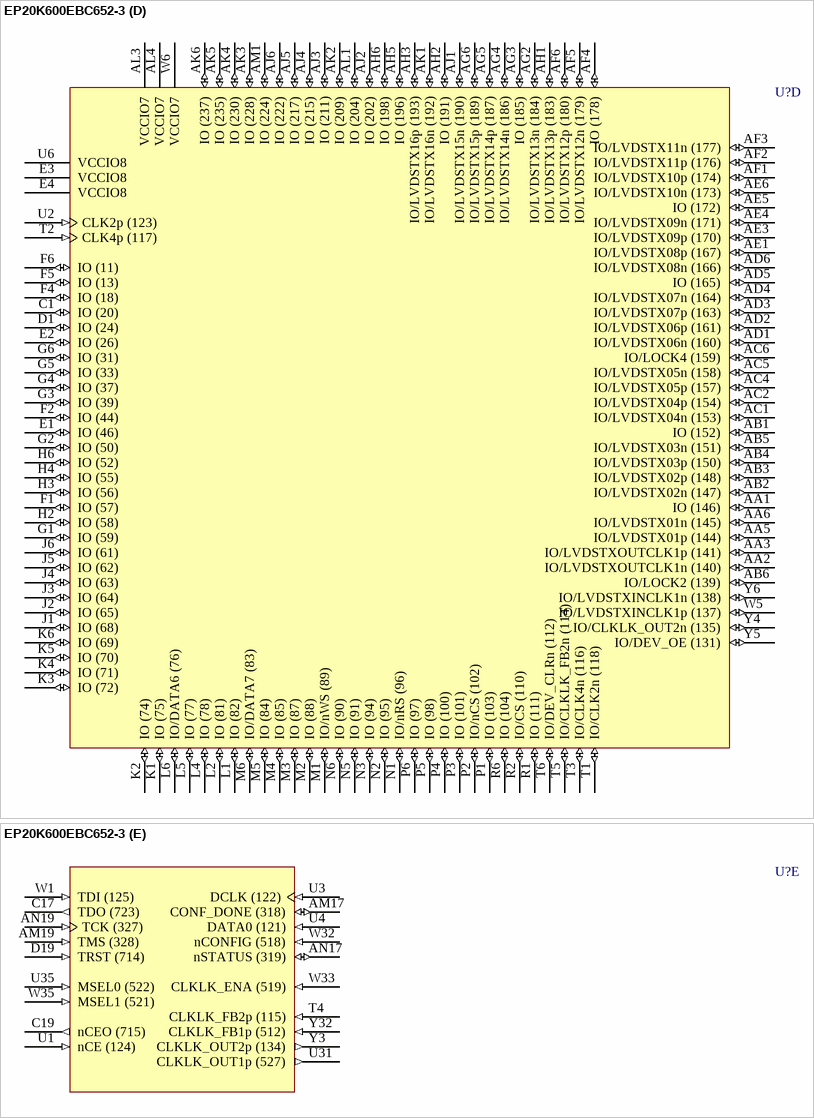
[diagram p340: symbol EP20K600EBC652-3]

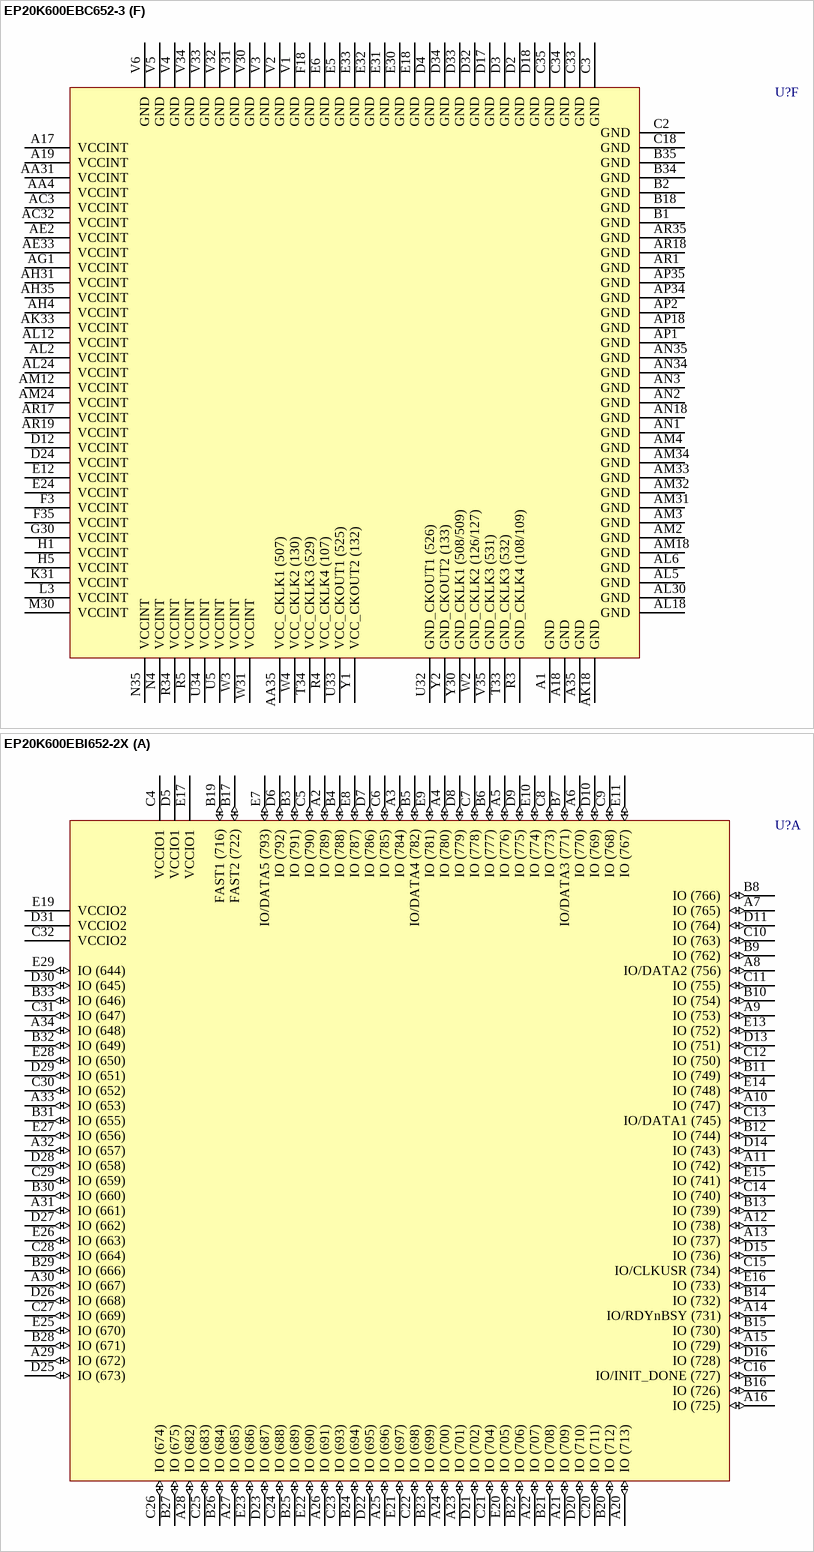
[diagram p341: symbols EP20K600EBC652-3 to EP20K600EBI652-2X]